# EAGLE library part EFM32GG380F1024 (library lattice1)
EFM32GG380F1024
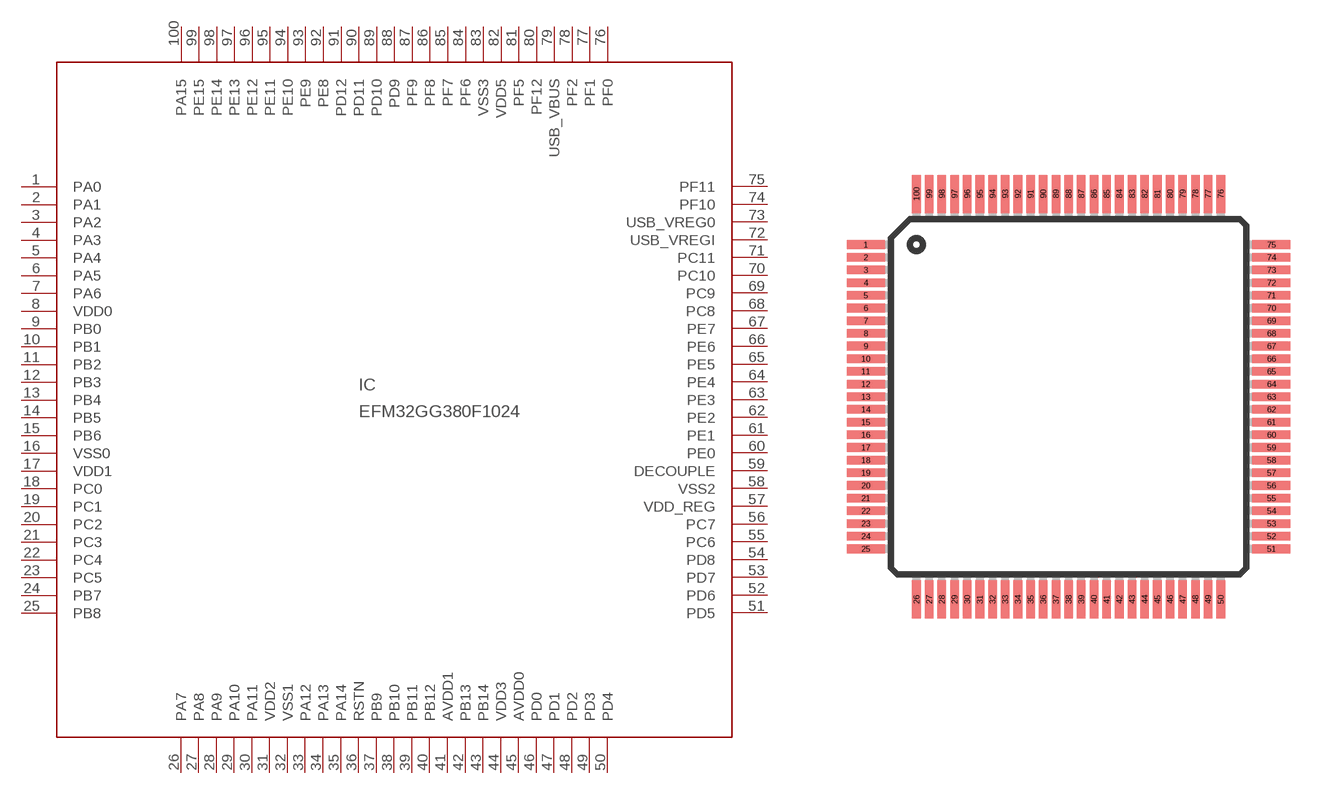
[diagram p32: symbol with the pads of TQFP100; footprint TQFP100]

Designator prefix IC

## EFM32GG380F1024  [TQFP100]
1  PA0
2  PA1
3  PA2
4  PA3
5  PA4
6  PA5
7  PA6
8  VDD0  pwr
9  PB0
10  PB1
11  PB2
12  PB3
13  PB4
14  PB5
15  PB6
16  VSS0  pwr
17  VDD1  pwr
18  PC0
19  PC1
20  PC2
21  PC3
22  PC4
23  PC5
24  PB7
25  PB8
26  PA7
27  PA8
28  PA9
29  PA10
30  PA11
31  VDD2  pwr
32  VSS1  pwr
33  PA12
34  PA13
35  PA14
36  RSTN
37  PB9
38  PB10
39  PB11
40  PB12
41  AVDD1
42  PB13
43  PB14
44  VDD3  pwr
45  AVDD0  pwr
46  PD0
47  PD1
48  PD2
49  PD3
50  PD4
51  PD5
52  PD6
53  PD7
54  PD8
55  PC6
56  PC7
57  VDD_REG  pwr
58  VSS2  pwr
59  DECOUPLE  pwr
60  PE0  pwr
61  PE1
62  PE2
63  PE3
64  PE4
65  PE5  pwr
66  PE6
67  PE7
68  PC8  pwr
69  PC9
70  PC10
71  PC11  pwr
72  USB_VREGI  out
73  USB_VREG0  pwr
74  PF10  in
75  PF11  in
76  PF0  in
77  PF1  pwr
78  PF2
79  USB_VBUS
80  PF12
81  PF5
82  VDD5  pwr
83  VSS3
84  PF6  pwr
85  PF7
86  PF8
87  PF9
88  PD9
89  PD10
90  PD11  pwr
91  PD12
92  PE8
93  PE9
94  PE10  pwr
95  PE11
96  PE12
97  PE13
98  PE14
99  PE15  pwr
100  PA15  in

## Footprint TQFP100 (pad centres in mm)
Thin Quad Flat Package
smd 1.5 x 0.34: 1 -8,6; 2 -8,5.5; 3 -8,5; 4 -8,4.5; 5 -8,4; 6 -8,3.5; 7 -8,3; 8 -8,2.5; 9 -8,2; 10 -8,1.5; 11 -8,1; 12 -8,0.5; 13 -8,0; 14 -8,-0.5; 15 -8,-1; 16 -8,-1.5; 17 -8,-2; 18 -8,-2.5; 19 -8,-3; 20 -8,-3.5; 21 -8,-4; 22 -8,-4.5; 23 -8,-5; 24 -8,-5.5; 25 -8,-6; 51 8,-6; 52 8,-5.5; 53 8,-5; 54 8,-4.5; 55 8,-4; 56 8,-3.5; 57 8,-3; 58 8,-2.5; 59 8,-2; 60 8,-1.5; 61 8,-1; 62 8,-0.5; 63 8,0; 64 8,0.5; 65 8,1; 66 8,1.5; 67 8,2; 68 8,2.5; 69 8,3; 70 8,3.5; 71 8,4; 72 8,4.5; 73 8,5; 74 8,5.5; 75 8,6
smd 0.34 x 1.5: 26 -6,-8; 27 -5.5,-8; 28 -5,-8; 29 -4.5,-8; 30 -4,-8; 31 -3.5,-8; 32 -3,-8; 33 -2.5,-8; 34 -2,-8; 35 -1.5,-8; 36 -1,-8; 37 -0.5,-8; 38 0,-8; 39 0.5,-8; 40 1,-8; 41 1.5,-8; 42 2,-8; 43 2.5,-8; 44 3,-8; 45 3.5,-8; 46 4,-8; 47 4.5,-8; 48 5,-8; 49 5.5,-8; 50 6,-8; 76 6,8; 77 5.5,8; 78 5,8; 79 4.5,8; 80 4,8; 81 3.5,8; 82 3,8; 83 2.5,8; 84 2,8; 85 1.5,8; 86 1,8; 87 0.5,8; 88 0,8; 89 -0.5,8; 90 -1,8; 91 -1.5,8; 92 -2,8; 93 -2.5,8; 94 -3,8; 95 -3.5,8; 96 -4,8; 97 -4.5,8; 98 -5,8; 99 -5.5,8; 100 -6,8